# EAGLE library part AD8040 (library IC)
Analog Devices AD8040 Quad Op Amp
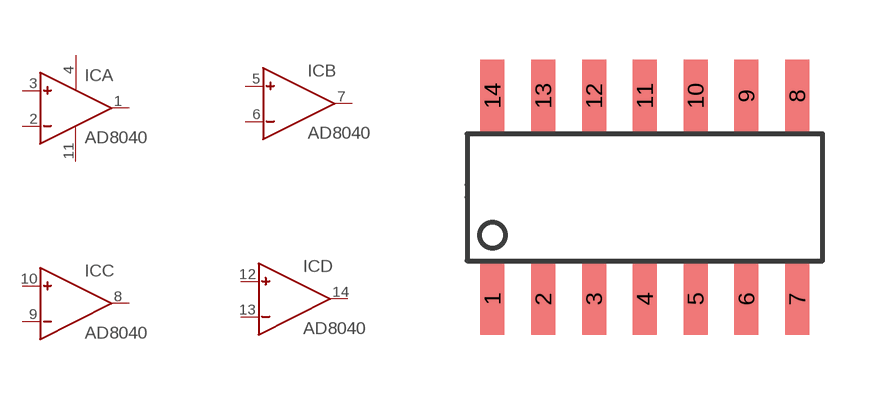
[diagram p64: symbol with the pads of SOIC14; footprint SOIC14]

Designator prefix IC; gates A=OPAMP-PWR B=OPAMP C=OPAMP D=OPAMP

## AD8040AR  [SOIC14]
1  A:OUT  out
2  A:IN-  in
3  A:IN+  in
4  A:V+  pwr
5  B:IN+  in
6  B:IN-  in
7  B:OUT  out
8  C:OUT  out
9  C:IN-  in
10  C:IN+  in
11  A:V-  pwr
12  D:IN+  in
13  D:IN-  in
14  D:OUT  out

## Footprint SOIC14 (pad centres in mm)
SOIC-14, 1.27mm pitch, 6.2mm width, 8.75mm length
smd 0.6 x 1.8: 1 -3.81,-2.54; 2 -2.54,-2.54; 3 -1.27,-2.54; 4 0,-2.54; 5 1.27,-2.54; 6 2.54,-2.54; 7 3.81,-2.54; 8 3.81,2.54; 9 2.54,2.54; 10 1.27,2.54; 11 0,2.54; 12 -1.27,2.54; 13 -2.54,2.54; 14 -3.81,2.54